# EAGLE library part TPS61165 (library ICs)
TPS61165 High-Brightness, White LED Driver 18V SOT23-6
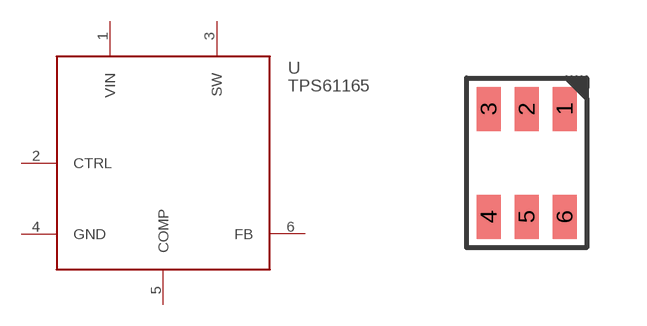
[diagram p46: symbol with the pads of SOT23-6; footprint SOT23-6]

Designator prefix U

## TPS61165DBVT (FARNELL: 2323441; PRICE_PER: 1.45; VALUE: TPS61165)  [SOT23-6]
1  VIN
2  CTRL
3  SW
4  GND
5  COMP
6  FB

## Footprint SOT23-6 (pad centres in mm)
smd 0.6 x 1.1: 1 0.95,1.35; 2 0,1.35; 3 -0.95,1.35; 4 -0.95,-1.35; 5 0,-1.35; 6 0.95,-1.35